# Altium footprint library TO-126(bend2).PcbLib: 1 footprints
Each footprint in its own frame and in the unit in brackets; x right, y up, seen from the top. Pads: shape width x height; smd on the part's side, far side on the other; paste and mask are expansions set on the pad; w line width, h text height; cw(c..) or ccw(c..) is an arc to the next point about the centre after c.
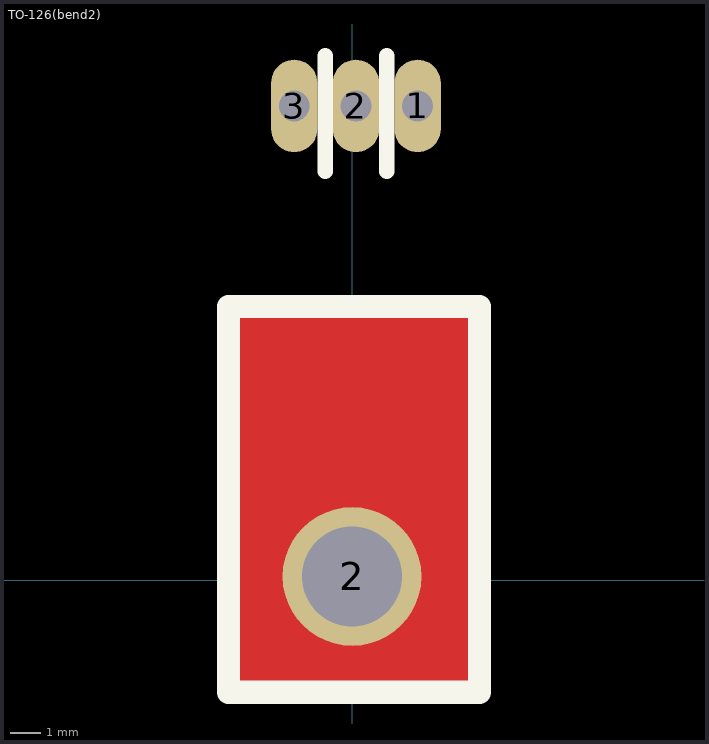
[diagram p0: the footprint, top view; thin cyan lines are the x and y axes]

## TO-126(bend2) [mil]
pads (4):
  oval 60x120 hole 40: 1(85,615) 2(5,615) 3(-75,615)
  round 180 hole 130: 2(0,5)
Top Layer:
  rectangle: -155,-140 160,350
Bottom Layer:
  rectangle: -145,-130 150,340
Top Overlay:
  lines w20: -35,530 -35,680 ; 45,530 45,680
  lines w30: -160,-145 165,-145 165,355 -160,355 -160,-145
Bottom Overlay:
  lines w20: -35,530 -35,680 ; 45,530 45,680
Top Paste:
  rectangle: -145,-130 150,340
Top Solder:
  rectangle: -145,-130 150,340
3D body "TO-126 (bend 2).STEP": height 133.15, standoff -197.99, extent -154.96,-138.86 160,628.86